# Altium footprint library connectors.PcbLib: 6 footprints
Each footprint in its own frame and in the unit in brackets; x right, y up, seen from the top. Pads: shape width x height; smd on the part's side, far side on the other; paste and mask are expansions set on the pad; w line width, h text height; cw(c..) or ccw(c..) is an arc to the next point about the centre after c.
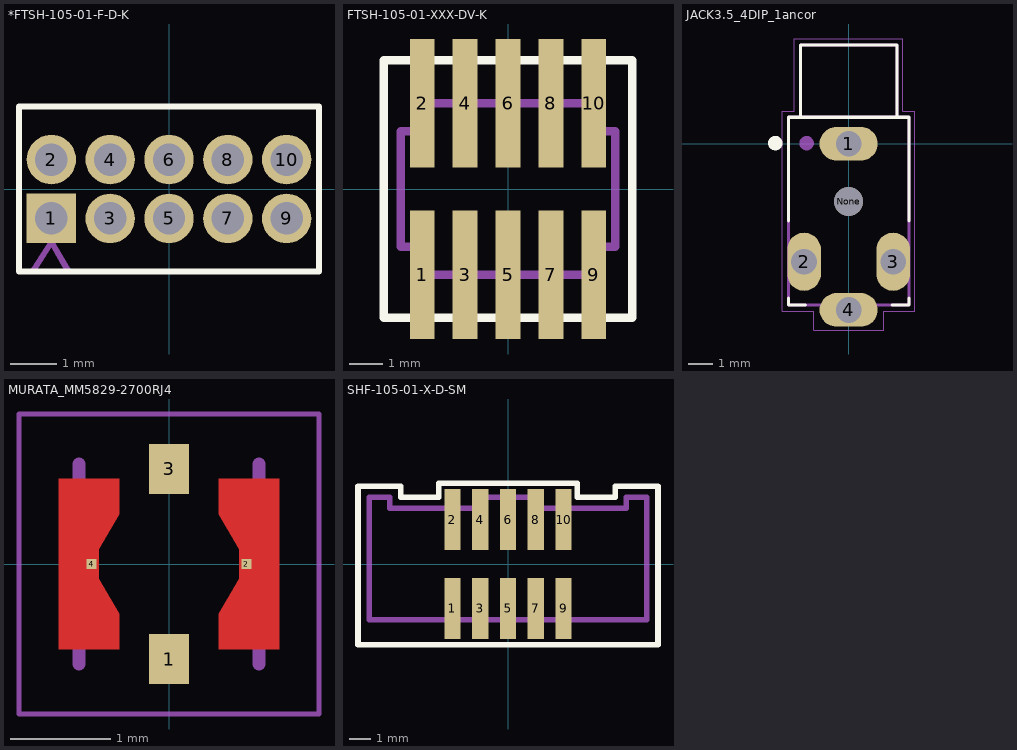
[diagram p0: the footprints below, top view; thin cyan lines are the x and y axes]

## *FTSH-105-01-F-D-K [mil]
pads (10):
  rect 42x42 hole 27.56 paste+0 mask+4: 1(-100,-25)
  round 42 hole 27.56 paste+0 mask+4: 2(-100,25) 4(-50,25) 5(0,-25) 6(0,25) 7(50,-25) 8(50,25) 10(100,25)
  round 42 hole 27.56: 3(-50,-25) 9(100,-25)
Top Overlay:
  lines w5: -127.48,-70.04 -127.48,70.04 127.48,70.04 127.48,-70.04 -127.48,-70.04
Mechanical 13:
  lines w5: -106.87,-31.87 -106.87,-16.13 ; -106.87,-31.87 -91.13,-31.87 ; -106.87,-31.87 -106.87,-16.13 ; -106.87,-31.87 -91.13,-31.87 ; -106.87,-16.13 -91.13,-16.13 ; -106.87,-16.13 -91.13,-16.13 ; -106.87,18.13 -106.87,33.87 ; -106.87,18.13 -91.13,18.13 ; -106.87,18.13 -106.87,33.87 ; -106.87,18.13 -91.13,18.13 ; -106.87,33.87 -91.13,33.87 ; -106.87,33.87 -91.13,33.87 ; -100,-45 -86,-69 -100,-45 ; -100,-45 -115,-69 -100,-45 ; -91.13,-31.87 -91.13,-16.13 ; -91.13,-31.87 -91.13,-16.13 ; -91.13,18.13 -91.13,33.87 ; -91.13,18.13 -91.13,33.87 ; -56.87,-31.87 -56.87,-16.13 ; -56.87,-31.87 -41.13,-31.87 ; -56.87,-31.87 -56.87,-16.13 ; -56.87,-31.87 -41.13,-31.87 ; -56.87,-16.13 -41.13,-16.13 ; -56.87,-16.13 -41.13,-16.13 ; -56.87,18.13 -56.87,33.87 ; -56.87,18.13 -41.13,18.13 ; -56.87,18.13 -56.87,33.87 ; -56.87,18.13 -41.13,18.13 ; -56.87,33.87 -41.13,33.87 ; -56.87,33.87 -41.13,33.87 ; -41.13,-31.87 -41.13,-16.13 ; -41.13,-31.87 -41.13,-16.13 ; -41.13,18.13 -41.13,33.87 ; -41.13,18.13 -41.13,33.87 ; -6.87,-31.87 -6.87,-16.13 ; -6.87,-31.87 8.87,-31.87 ; -6.87,-31.87 -6.87,-16.13 ; -6.87,-31.87 8.87,-31.87 ; -6.87,-16.13 8.87,-16.13 ; -6.87,-16.13 8.87,-16.13 ; -6.87,18.13 -6.87,33.87 ; -6.87,18.13 8.87,18.13 ; -6.87,18.13 -6.87,33.87 ; -6.87,18.13 8.87,18.13 ; -6.87,33.87 8.87,33.87 ; -6.87,33.87 8.87,33.87 ; 8.87,-31.87 8.87,-16.13 ; 8.87,-31.87 8.87,-16.13 ; 8.87,18.13 8.87,33.87 ; 8.87,18.13 8.87,33.87 ; 43.13,-31.87 43.13,-16.13 ; 43.13,-31.87 58.87,-31.87 ; 43.13,-31.87 43.13,-16.13 ; 43.13,-31.87 58.87,-31.87 ; 43.13,-16.13 58.87,-16.13 ; 43.13,-16.13 58.87,-16.13 ; 43.13,18.13 43.13,33.87 ; 43.13,18.13 58.87,18.13 ; 43.13,18.13 43.13,33.87 ; 43.13,18.13 58.87,18.13 ; 43.13,33.87 58.87,33.87 ; 43.13,33.87 58.87,33.87 ; 58.87,-31.87 58.87,-16.13 ; 58.87,-31.87 58.87,-16.13 ; 58.87,18.13 58.87,33.87 ; 58.87,18.13 58.87,33.87 ; 93.13,-31.87 93.13,-16.13 ; 93.13,-31.87 108.87,-31.87 ; 93.13,-31.87 93.13,-16.13 ; 93.13,-31.87 108.87,-31.87 ; 93.13,-16.13 108.87,-16.13 ; 93.13,-16.13 108.87,-16.13 ; 93.13,18.13 93.13,33.87 ; 93.13,18.13 108.87,18.13 ; 93.13,18.13 93.13,33.87 ; 93.13,18.13 108.87,18.13 ; 93.13,33.87 108.87,33.87 ; 93.13,33.87 108.87,33.87 ; 108.87,-31.87 108.87,-16.13 ; 108.87,-31.87 108.87,-16.13 ; 108.87,18.13 108.87,33.87 ; 108.87,18.13 108.87,33.87
3D body "FTSH-105-01-F-D-K.stp": height 225, standoff -90, extent -125,-100 125,100

## FTSH-105-01-XXX-DV-K [mil]
pads (10):
  rect 29x150 smd mask+2: 1(-100,-100) 2(-100,100) 3(-50,-100) 4(-50,100) 5(0,-100) 6(0,100) 7(50,-100) 8(50,100) 9(100,-100) 10(100,100)
Top Overlay:
  lines w10: -145,-150 -145,150 145,150 145,-150 -145,-150
Mechanical 1:
  lines w10: -125,-67.5 -125,67.5 -100,67.5 -100,100 100,100 100,67.5 125,67.5 125,-67.5 100,-67.5 100,-100 -100,-100 -100,-67.5 -125,-67.5
  text "J1" at -17.14,-17.5 h25
3D body "FTSH-105-01-F-DV-K-TR.STEP": height 225, standoff -16, extent -125,-115 125,115

## JACK3.5_4DIP_1ancor [mm]
pads (5):
  oval 2.416x1.397 hole 1.067: 1(0,0) 4(0,-6.9)
  oval 1.397x2.416 hole 1.067: 2(-1.85,-4.9) 3(1.85,-4.9)
  round 1.2 hole 1.2 unplated: None(0,-2.4)
Top Overlay:
  circle w0.3: c-3.044,0.024 r0.15
  lines w0.127: -2.5,-6.4 -2.5,-6.7 -1.8,-6.7 ; -2.5,-3.2 -2.5,1.1 -2,1.1 ; 1.8,-6.7 2.5,-6.7 2.5,-6.4 ; 2.5,-3.2 2.5,1.1 2,1.1 ; -2,1.1 -2,4.1 2,4.1 2,1.1 ; -2,1.1 2,1.1
Mechanical 13:
  circle w0.3: c-1.744,0.024 r0.15
  circle w0.3: c-1.744,0.024 r0.15
  lines w0.127: -2.5,-6.7 -2.5,1.1 ; -2.5,-6.7 2.5,-6.7 ; -2.5,-6.7 -2.5,1.1 ; -2.5,-6.7 2.5,-6.7 ; -2.5,1.1 -2,1.1 ; -2.5,1.1 -2,1.1 ; -2,1.1 -2,4.1 ; -2,1.1 2,1.1 ; -2,1.1 -2,4.1 ; -2,1.1 2,1.1 ; -2,4.1 2,4.1 ; -2,4.1 2,4.1 ; 2,1.1 2,4.1 ; 2,1.1 2.5,1.1 ; 2,1.1 2,4.1 ; 2,1.1 2.5,1.1 ; 2.5,-6.7 2.5,1.1 ; 2.5,-6.7 2.5,1.1
Mechanical 15:
  lines w0.05: -2.75,-6.95 -1.45,-6.95 -1.45,-7.75 1.45,-7.75 1.45,-6.95 2.75,-6.95 2.75,1.35 2.25,1.35 2.25,4.35 -2.25,4.35 -2.25,1.35 -2.75,1.35 -2.75,-6.95
3D body "jack3_5.stp": height 5.04, standoff -2.46, extent -2.5,-7.086 2.5,4.064

## MURATA_MM5829-2700RJ4 [mm]
pads (4):
  rect 0.4x0.5 smd: 1(0,-0.95) 3(0,0.95)
  rect 0.1x0.1 smd: 2(0.775,0) 4(-0.775,0)
Top Layer:
  region: 0.5,-0.5 0.5,-0.85 1.1,-0.85 1.1,0.85 0.5,0.85 0.5,0.5 0.7,0.15 0.7,-0.15
  region: -0.5,0.5 -0.5,0.85 -1.1,0.85 -1.1,-0.85 -0.5,-0.85 -0.5,-0.5 -0.7,-0.15 -0.7,0.15
Top Paste:
  region: -1.101,0.7 -0.7,0.7 -0.7,-0.701 -1.101,-0.701
  region: 0.701,0.7 1.1,0.7 1.1,-0.701 0.701,-0.701
  region: -0.15,1.1 0.15,1.1 0.15,0.75 -0.15,0.75
  region: -0.15,-0.75 0.15,-0.75 0.15,-1.102 -0.15,-1.102
Top Solder:
  region: -1.102,0.85 -0.45,0.85 -0.45,-0.852 -1.102,-0.852
  region: 0.45,0.85 1.1,0.85 1.1,-0.851 0.45,-0.851
  region: -0.25,1.2 0.25,1.2 0.25,0.651 -0.25,0.651
  region: -0.25,-0.65 0.25,-0.65 0.25,-1.201 -0.25,-1.201
Mechanical 13:
  lines w0.127: -0.9,-1 -0.9,1 -0.9,-1 ; 0.9,-1 0.9,1 0.9,-1
Mechanical 15:
  lines w0.05: -1.5,-1.5 -1.5,1.5 1.5,1.5 1.5,-1.5 -1.5,-1.5

## PCBComponent_1 [mil]

## SHF-105-01-X-D-SM [mil]
pads (10):
  rect 29x110 smd mask+2: 1(-100,-80) 2(-100,80) 3(-50,-80) 4(-50,80) 5(0,-80) 6(0,80) 7(50,-80) 8(50,80) 9(100,-80) 10(100,80)
Top Overlay:
  lines w10: -270,-145 -270,140 -193,140 -193,120 -125,120 -125,145 125,145 125,120 193,120 193,140 270,140 270,-145 -270,-145
Mechanical 1:
  lines w10: -250,-100 -250,120 -213,120 -213,100 -50,100 -50,120 50,120 50,100 213,100 213,120 250,120 250,-100 -250,-100
  text "J1" at -19.57,-20 h30